# Altium footprint library SamacSys.PcbLib: 59 footprints (part 2 of 4)
Each footprint in its own frame and in the unit in brackets; x right, y up, seen from the top. Pads: shape width x height; smd on the part's side, far side on the other; paste and mask are expansions set on the pad; w line width, h text height; cw(c..) or ccw(c..) is an arc to the next point about the centre after c.
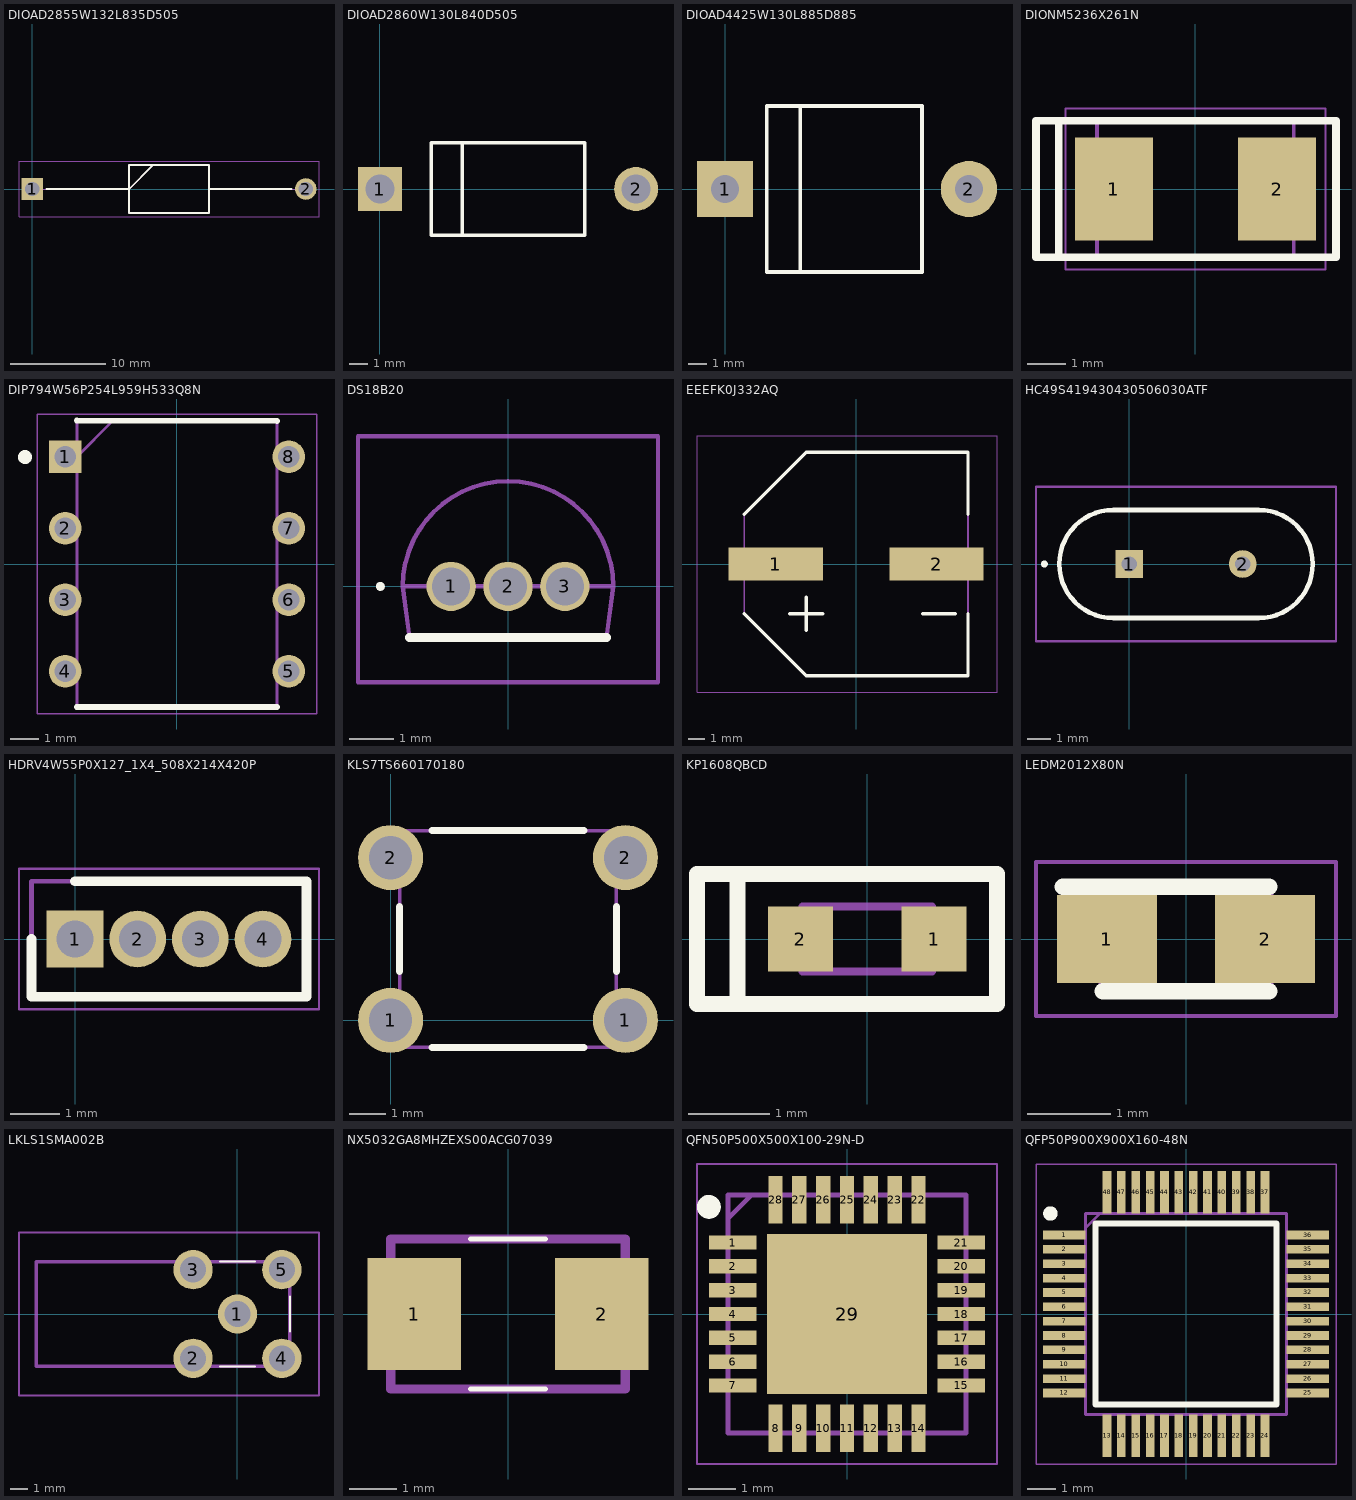
[diagram p1: the footprints below, top view; thin cyan lines are the x and y axes]

## DIOAD2855W132L835D505 [mm]
pads (2):
  rect 2.25x2.25 hole 1.5: 1(0,0)
  round 2.25 hole 1.5: 2(28.6,0)
Top Overlay:
  lines w0.2: 1.475,0 10.125,0 12.65,2.525 ; 18.475,0 27.125,0 ; 10.125,-2.525 18.475,-2.525 18.475,2.525 10.125,2.525 10.125,-2.525
Mechanical 13:
  lines w0.1: 0,0 10.125,0 12.65,2.525 ; 18.475,0 28.6,0 ; 10.125,-2.525 18.475,-2.525 18.475,2.525 10.125,2.525 10.125,-2.525
Mechanical 15:
  lines w0.05: -1.375,-2.875 29.975,-2.875 29.975,2.875 -1.375,2.875 -1.375,-2.875
3D body "SB360-E3_54.stp": height 5.3, standoff -5.3, extent -0.655,-2.65 29.21,2.65

## DIOAD2860W130L840D505 [mm]
pads (2):
  rect 2.4x2.4 hole 1.6: 1(0,0)
  round 2.4 hole 1.6: 2(14,0)
Top Overlay:
  lines w0.2: 4.5,-2.525 4.5,2.525 ; 2.8,-2.525 2.8,2.525 11.2,2.525 11.2,-2.525 2.8,-2.525
3D body: height 5.1, standoff 0.1, extent 2.8,-2.5 11.2,2.5
3D body: height 2.5, standoff 0, extent -0.8,-0.8 0.8,0.8
3D body: height 2.5, standoff 0, extent 13.2,-0.8 14.8,0.8
3D body: height 3.3, standoff 1.7, extent -0.8,-0.8 2.8,0.8
3D body: height 3.3, standoff 1.7, extent 11.2,-0.8 14.8,0.8

## DIOAD4425W130L885D885 [mm]
pads (2):
  rect 3x3 hole 1.5: 1(0,0)
  round 3 hole 1.5: 2(13,0)
Top Overlay:
  lines w0.2: 4,-4.425 4,4.425 ; 2.225,-4.425 10.5,-4.425 10.5,4.425 2.225,4.425 2.225,-4.425
3D body: height 8.9, standoff 0.1, extent 2.2,-4.4 10.4,4.4
3D body: height 5.15, standoff 3.65, extent -0.75,-0.75 2.25,0.75
3D body: height 5.15, standoff 3.65, extent 10.25,-0.75 13.75,0.75
3D body: height 4.4, standoff 0, extent -0.75,-0.75 0.75,0.75
3D body: height 4.4, standoff 0, extent 12.25,-0.75 13.75,0.75

## DIONM5236X261N [mm]
pads (2):
  rect 2.05x2.7 smd: 1(-2.15,0) 2(2.15,0)
Top Overlay:
  lines w0.2: -3.598,-1.802 -4.2,-1.802 -4.2,1.802 -3.598,1.802 ; -3.598,-1.802 -3.598,1.802 ; -3.598,-1.802 -2.59,-1.802 2.59,-1.802 3.7,-1.802 3.7,1.802 2.59,1.802 -2.59,1.802 -3.598,1.802
Mechanical 13:
  lines w0.1: -2.59,-1.802 2.59,-1.802 2.59,1.802 -2.59,1.802 -2.59,-1.802
Mechanical 15:
  lines w0.05: -3.425,-2.115 3.425,-2.115 3.425,2.115 -3.425,2.115 -3.425,-2.115
3D body "SK56B_R4.stp": height 2.61, standoff 0, extent -2.59,-1.803 2.59,1.803

## DIP794W56P254L959H533Q8N [mm]
pads (8):
  rect 1.16x1.16 hole 0.76: 1(-3.97,3.81)
  round 1.16 hole 0.76: 2(-3.97,1.27) 3(-3.97,-1.27) 4(-3.97,-3.81) 5(3.97,-3.81) 6(3.97,-1.27) 7(3.97,1.27) 8(3.97,3.81)
Top Overlay:
  circle w0.25: c-5.4,3.8 r0.125
  lines w0.2: -3.555,-5.08 3.555,-5.08 ; -3.555,5.1 3.555,5.08
Mechanical 13:
  lines w0.1: -3.555,3.81 -2.285,5.08 ; -3.555,-5.08 3.555,-5.08 3.555,5.08 -3.555,5.08 -3.555,-5.08
Mechanical 15:
  lines w0.05: -4.96,-5.33 4.96,-5.33 4.96,5.33 -4.96,5.33 -4.96,-5.33
3D body "ADM1485ANZ.stp": height 5.33, standoff -3.5, extent -4.11,-4.795 4.11,4.795

## DS18B20 [mm]
pads (3):
  round 1.1 hole 0.85: 1(-1.27,0) 2(0,0) 3(1.27,0)
Top Overlay:
  lines w0.1: -2.9,0 ccw(c-2.85,0) -2.8,0 ccw(c-2.85,0) -2.9,0
  lines w0.2: -2.2,-1.14 2.2,-1.14
Mechanical 13:
  lines w0.1: -2.35,0 cw(c0,0) 2.35,0 ; -2.35,0 -2.2,-1.14 2.2,-1.14 2.35,0 ; -2.35,0 2.35,0
Mechanical 15:
  lines w0.1: -3.35,-2.14 -3.35,3.35 3.35,3.35 3.35,-2.14 -3.35,-2.14
3D body "DS18B20+.stp": height 5.33, standoff -12.7, extent -2.836,-1.1 2.974,3.078

## EEEFK0J332AQ [mm]
pads (2):
  rect 5.7x2 smd: 1(-4.85,0) 2(4.85,0)
Top Overlay:
  lines w0.2: -6.75,-3 -3,-6.75 6.75,-6.75 6.75,-3 ; -6.75,3 -3,6.75 6.75,6.75 6.75,3 ; -4,-3 -2,-3 ; -3,-4 -3,-2 ; 4,-3 6,-3
Mechanical 13:
  lines w0.1: -6.75,3 -3,6.75 ; -6.75,3 -6.75,-3 -3,-6.75 6.75,-6.75 6.75,6.75 -3,6.75 ; -6.75,3 -3,6.75
Mechanical 15:
  lines w0.05: -9.6,-7.75 8.5,-7.75 8.5,7.75 -9.6,7.75 -9.6,-7.75
3D body "EEV-FK1K101Q.stp": height 0, standoff 0, extent 0,0 0,0

## HC49S419430430506030ATF [mm]
pads (2):
  rect 1.192x1.192 hole 0.65: 1(0,0)
  round 1.192 hole 0.65: 2(4.88,0)
Top Overlay:
  lines w0.2: -3.7,0 cw(c-3.65,0) -3.6,0 ; -3.7,0 ccw(c-3.65,0) -3.6,0 ; -3.7,0 cw(c-3.65,0) -3.6,0 ; -0.685,-2.325 cw(c-0.685,0) -0.685,2.325 5.565,2.325 cw(c5.565,0) 5.565,-2.325 2.44,-2.325 -0.685,-2.325
Mechanical 13:
  lines w0.1: -0.685,-2.325 cw(c-0.685,0) -0.685,2.325 5.565,2.325 cw(c5.565,0) 5.565,-2.325 2.44,-2.325 -0.685,-2.325
Mechanical 15:
  lines w0.1: -4.01,-3.325 -4.01,3.325 8.89,3.325 8.89,-3.325 -4.01,-3.325
3D body "HC49S-4.194304-30-50-60-30-ATF.stp": height 4.1, standoff -5, extent -3.01,-2.325 7.89,2.325

## HDRV4W55P0X127_1X4_508X214X420P [mm]
pads (4):
  rect 1.15x1.15 hole 0.75: 1(0,0)
  round 1.15 hole 0.75: 2(1.27,0) 3(2.54,0) 4(3.81,0)
Top Overlay:
  lines w0.2: -0.885,0 -0.885,-1.17 4.695,-1.17 4.695,1.17 0,1.17
Mechanical 13:
  lines w0.1: -0.885,-1.17 -0.885,1.17 4.695,1.17 4.695,-1.17 -0.885,-1.17
Mechanical 15:
  lines w0.05: -1.135,-1.42 -1.135,1.42 4.945,1.42 4.945,-1.42 -1.135,-1.42
3D body "PBC04SAAN.stp": height 4.2, standoff -2.5, extent -0.635,-1.07 4.445,1.07

## KLS7TS660170180 [mm]
pads (4):
  round 1.8 hole 1.2: 1(0,0) 1(6.5,0) 2(0,4.5) 2(6.5,4.5)
Top Overlay:
  lines w0.2: 0.25,1.35 0.25,3.15 ; 1.15,-0.75 5.35,-0.75 ; 1.15,5.25 5.35,5.25 ; 6.25,1.35 6.25,3.15
Mechanical 13:
  lines w0.1: 0.25,-0.75 0.25,5.25 6.25,5.25 6.25,-0.75 0.25,-0.75
3D body: height 13, standoff 0, extent 0.5,-0.5 6,5
3D body: height 3.5, standoff 0, extent 0.25,-0.75 6.25,5.25

## KP1608QBCD [mm]
pads (2):
  rect 0.8x0.8 smd: 1(0.825,0) 2(-0.825,0)
Top Overlay:
  lines w0.2: -1.6,-0.8 -1.6,0.8 ; -2.1,-0.8 -1.8,-0.8 -1.3,-0.8 1.6,-0.8 1.6,0.8 -1.3,0.8 -2.1,0.8 -2.1,-0.8
Mechanical 13:
  lines w0.1: -0.8,-0.4 0.8,-0.4 0.8,0.4 -0.8,0.4 -0.8,-0.4
Mechanical 15:
  lines w0.1: -2.1,-0.8 1.6,-0.8 1.6,0.8 -2.1,0.8 -2.1,-0.8
3D body "KP-1608QBC-D.stp": height 1.2, standoff 0, extent -0.8,-0.4 0.8,0.4

## LEDM2012X80N [mm]
pads (2):
  rect 1.2x1.05 smd: 1(-0.95,0) 2(0.95,0)
Top Overlay:
  lines w0.2: -1.475,0.625 1,0.625 ; -1,-0.625 1,-0.625
Mechanical 13:
  lines w0.1: -1,0.1 -0.475,0.625 ; -1,-0.625 1,-0.625 1,0.625 -1,0.625 -1,-0.625
Mechanical 15:
  lines w0.05: -1.8,-0.925 1.8,-0.925 1.8,0.925 -1.8,0.925 -1.8,-0.925
3D body "150080GS75000.stp": height 0.7, standoff 0, extent -1,-0.625 1,0.625

## LKLS1SMA002B [mm]
pads (5):
  round 2.25 hole 1.5: 1(0,0) 2(-2.54,-2.54) 3(-2.54,2.54) 4(2.54,-2.54) 5(2.54,2.54)
Top Overlay:
  lines w0.1: -1,-3 1,-3 ; -1,3 1,3 ; 3,-1 3,1
Mechanical 13:
  lines w0.2: -11.5,-3 3,-3 3,3 -11.5,3 -11.5,-3
Mechanical 15:
  lines w0.1: -12.5,-4.665 4.665,-4.665 4.665,4.665 -12.5,4.665 -12.5,-4.665
3D body "L-KLS1-SMA002-B.stp": height 9.6, standoff -5, extent -11.5,-3.189 3.19,3.189

## NX5032GA8MHZEXS00ACG07039 [mm]
pads (2):
  rect 2x2.4 smd: 1(-2,0) 2(2,0)
Top Overlay:
  lines w0.1: -0.8,-1.6 0.8,-1.6 ; -0.8,1.6 0.8,1.6
Mechanical 13:
  lines w0.2: -2.5,-1.6 2.5,-1.6 2.5,1.6 -2.5,1.6 -2.5,-1.6
3D body "NX5032GA-8MHZ-EXS00A-CG07039.stp": height 1.6, standoff 0, extent -2.8,-1.6 2.8,1.6

## QFN50P500X500X100-29N-D [mm]
pads (29):
  rect 1x0.3 smd: 1(-2.4,1.5) 2(-2.4,1) 3(-2.4,0.5) 4(-2.4,0) 5(-2.4,-0.5) 6(-2.4,-1) 7(-2.4,-1.5) 15(2.4,-1.5) 16(2.4,-1) 17(2.4,-0.5) 18(2.4,0) 19(2.4,0.5) 20(2.4,1) 21(2.4,1.5)
  rect 0.3x1 smd: 8(-1.5,-2.4) 9(-1,-2.4) 10(-0.5,-2.4) 11(0,-2.4) 12(0.5,-2.4) 13(1,-2.4) 14(1.5,-2.4) 22(1.5,2.4) 23(1,2.4) 24(0.5,2.4) 25(0,2.4) 26(-0.5,2.4) 27(-1,2.4) 28(-1.5,2.4)
  rect 3.35x3.35 smd: 29(0,0)
Top Overlay:
  circle w0.25: c-2.9,2.25 r0.125
Mechanical 13:
  lines w0.1: -2.5,2 -2,2.5 ; -2.5,-2.5 2.5,-2.5 2.5,2.5 -2.5,2.5 -2.5,-2.5
Mechanical 15:
  lines w0.05: -3.15,-3.15 3.15,-3.15 3.15,3.15 -3.15,3.15 -3.15,-3.15
3D body "CP2102-GMR.stp": height 1, standoff 0, extent -2.55,-2.55 2.55,2.55

## QFP50P900X900X160-48N [mm]
pads (48):
  rect 1.475x0.3 smd: 1(-4.238,2.75) 2(-4.238,2.25) 3(-4.238,1.75) 4(-4.238,1.25) 5(-4.238,0.75) 6(-4.238,0.25) 7(-4.238,-0.25) 8(-4.238,-0.75) 9(-4.238,-1.25) 10(-4.238,-1.75) 11(-4.238,-2.25) 12(-4.238,-2.75) 25(4.238,-2.75) 26(4.238,-2.25) 27(4.238,-1.75) 28(4.238,-1.25) 29(4.238,-0.75) 30(4.238,-0.25) 31(4.238,0.25) 32(4.238,0.75) 33(4.238,1.25) 34(4.238,1.75) 35(4.238,2.25) 36(4.238,2.75)
  rect 0.3x1.475 smd: 13(-2.75,-4.238) 14(-2.25,-4.238) 15(-1.75,-4.238) 16(-1.25,-4.238) 17(-0.75,-4.238) 18(-0.25,-4.238) 19(0.25,-4.238) 20(0.75,-4.238) 21(1.25,-4.238) 22(1.75,-4.238) 23(2.25,-4.238) 24(2.75,-4.238) 37(2.75,4.238) 38(2.25,4.238) 39(1.75,4.238) 40(1.25,4.238) 41(0.75,4.238) 42(0.25,4.238) 43(-0.25,4.238) 44(-0.75,4.238) 45(-1.25,4.238) 46(-1.75,4.238) 47(-2.25,4.238) 48(-2.75,4.238)
Top Overlay:
  circle w0.25: c-4.725,3.5 r0.125
  lines w0.2: -3.15,-3.15 -3.15,3.15 3.15,3.15 3.15,-3.15 -3.15,-3.15
Mechanical 13:
  lines w0.1: -3.5,3 -3,3.5 ; -3.5,-3.5 -3.5,3.5 3.5,3.5 3.5,-3.5 -3.5,-3.5
Mechanical 15:
  lines w0.05: -5.225,-5.225 -5.225,5.225 5.225,5.225 5.225,-5.225 -5.225,-5.225
3D body "STM32F302CBT6.stp": height 1.6, standoff 0, extent -4.5,-4.5 4.5,4.5